# Altium integrated library Molex FFC - FPC Connectors (SMT).IntLib: 638 symbols (part 13 of 20)
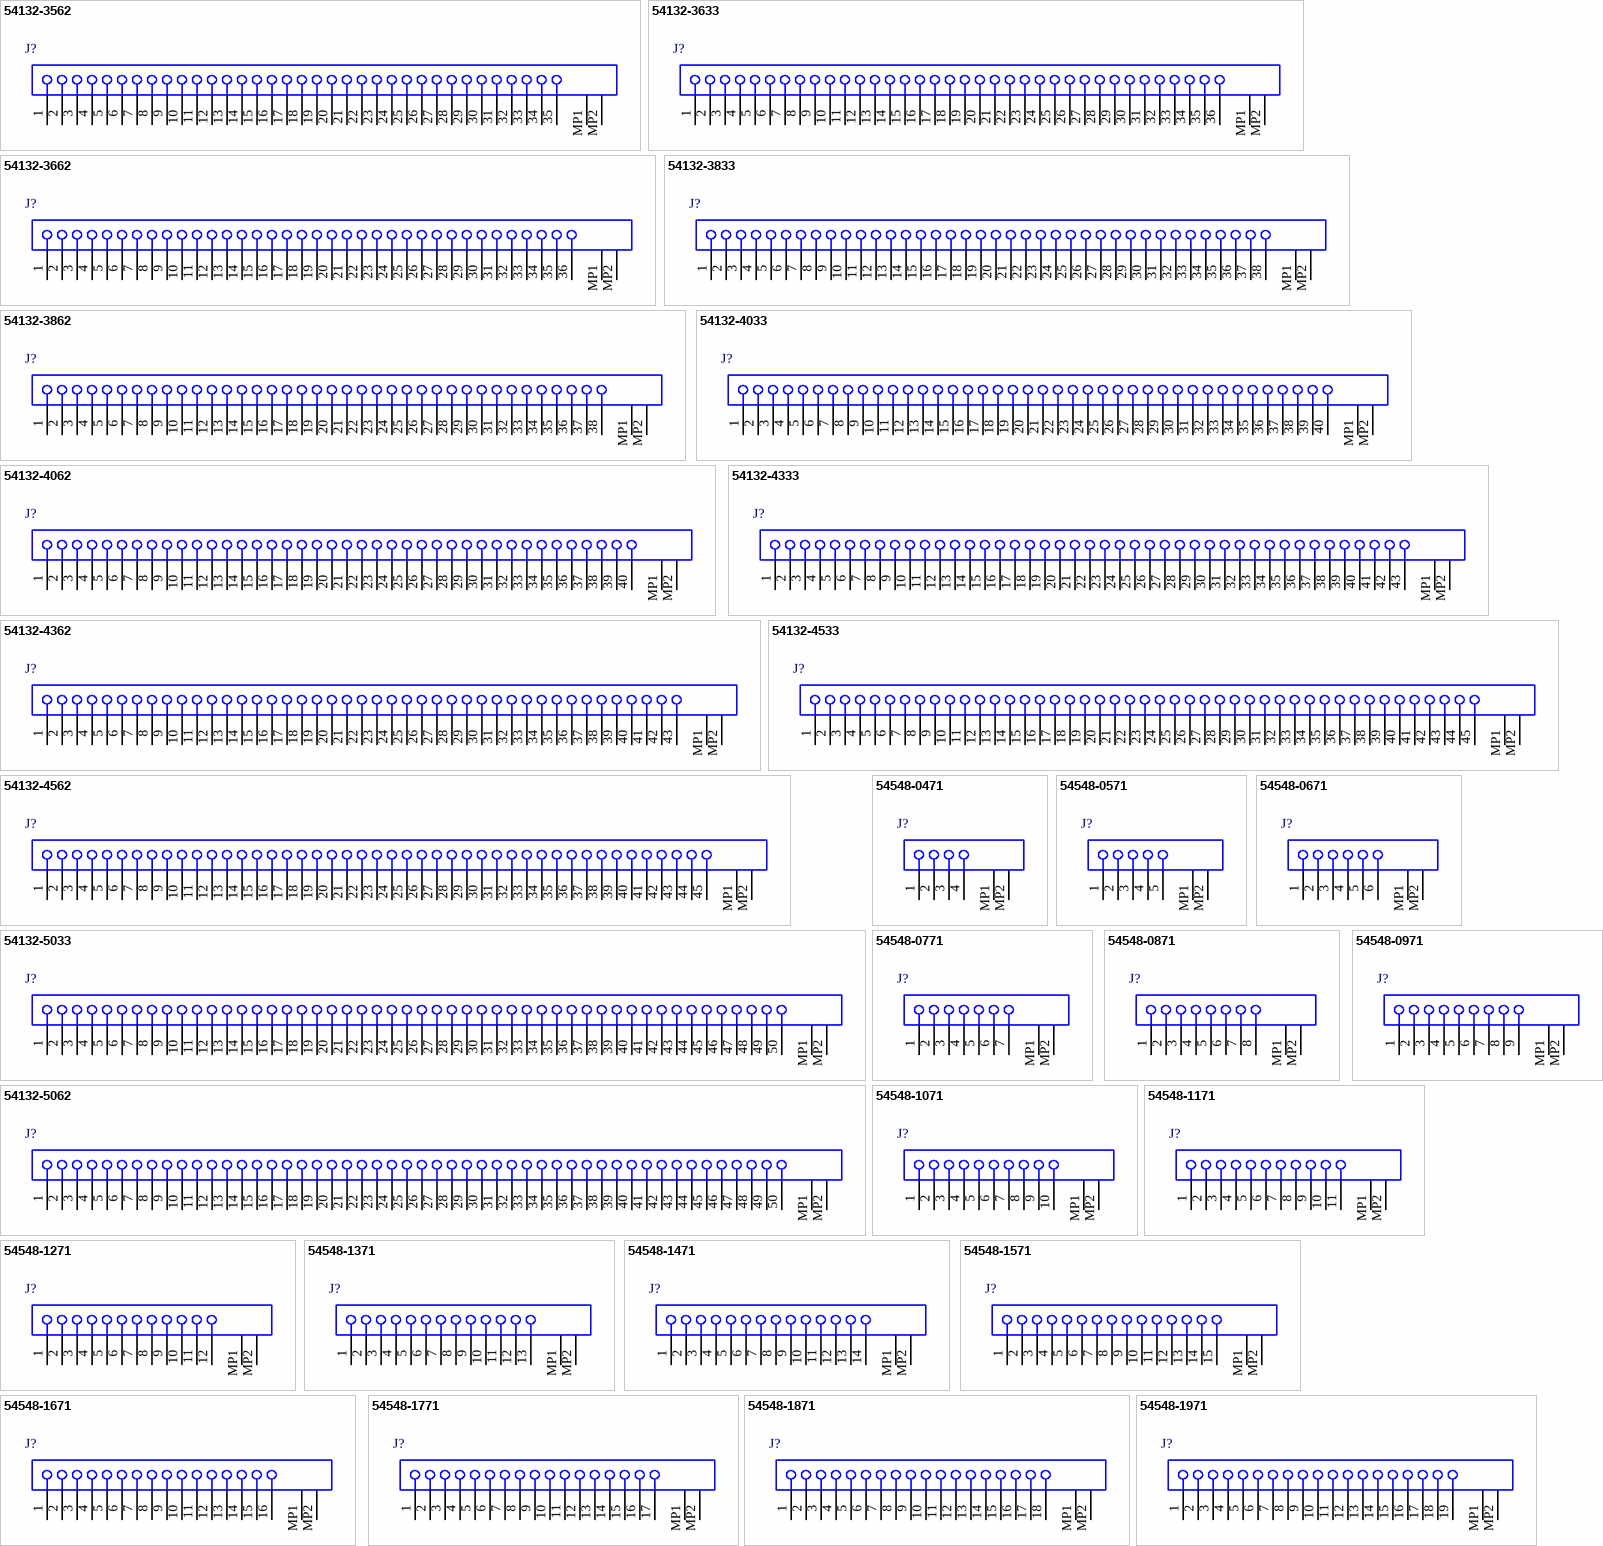
[diagram p33: symbols 54132-3562 to 54548-1971]

## 54548-0771
designator J?
0.5 mm Pitch Easy-On(TM) Type FPC Connector, 1.2 mm Mated Height, Right Angle, ZIF, SMT, Bottom Contact, 7 Circuits, -20 to 85 degC, ELV and RoHS Compliant, Tape and Reel; Manufacturer: Molex; PartNumber: 54548-0771; Circuits (Loaded): 7; Current (Max per Contact): 0.5A; Durability (mating cycles max): 20; Entry Angle: 90degrees Angle; Mated Height: 1.20mm; Material - Metal: Phosphor Bronze; Material - Plating Mating: Gold; Material - Plating Termination: Tin; PCB Locator: No; PCB Retention: Yes; Pitch - Mating Interface: 0.50mm; Voltage (Max): 50V; PackageVersion: Rev. N, 06/2008; PackageReference: 54548-0771; PackageDescription: 7-Lead FPC Connector, Pitch 0.5 mm; Contact Position: Bottom; Number of Rows: 1; Orientation: Right Angle; Packing: Tape and Reel; Polarized to PCB: Yes; RoHS: TRUE; Stackable: No; Mounting Technology: Surface Mount; ComponentLink1Description: Manufacturer URL; ComponentLink1URL: http://www.molex.com/molex/index.jsp; ComponentLink2Description: Datasheet; ComponentLink2URL: http://www.molex.com/webdocs/datasheets/pdf/en-us/0545480771_FFC_FPC_CONNECTORS.pdf; ComponentLink3Description: Package Specification; ComponentLink3URL: http://www.molex.com/pdm_docs/sd/545480771_sd.pdf
footprint MOLX-54548-0771 (FPC Connector, 7-Leads, Right Angle, Pitch 0.5 mm, Mated Height 1.2 mm, SMT)
pins: 1, 2, 3, 4, 5, 6, 7, MP1, MP2

## 54548-0871
designator J?
0.5 mm Pitch Easy-On(TM) Type FPC Connector, 1.2 mm Mated Height, Right Angle, ZIF, SMT, Bottom Contact, 8 Circuits, -20 to 85 degC, ELV and RoHS Compliant, Tape and Reel; Manufacturer: Molex; PartNumber: 54548-0871; Circuits (Loaded): 8; Current (Max per Contact): 0.5A; Durability (mating cycles max): 20; Entry Angle: 90degrees Angle; Mated Height: 1.20mm; Material - Metal: Phosphor Bronze; Material - Plating Mating: Gold; Material - Plating Termination: Tin; PCB Locator: No; PCB Retention: Yes; Pitch - Mating Interface: 0.50mm; Voltage (Max): 50V; PackageVersion: Rev. N, 06/2008; PackageReference: 54548-0871; PackageDescription: 8-Lead FPC Connector, Pitch 0.5 mm; Contact Position: Bottom; Number of Rows: 1; Orientation: Right Angle; Packing: Tape and Reel; Polarized to PCB: Yes; RoHS: TRUE; Stackable: No; Mounting Technology: Surface Mount; ComponentLink1Description: Manufacturer URL; ComponentLink1URL: http://www.molex.com/molex/index.jsp; ComponentLink2Description: Datasheet; ComponentLink2URL: http://www.molex.com/webdocs/datasheets/pdf/en-us/0545480871_FFC_FPC_CONNECTORS.pdf; ComponentLink3Description: Package Specification; ComponentLink3URL: http://www.molex.com/pdm_docs/sd/545480871_sd.pdf
footprint MOLX-54548-0871 (FPC Connector, 8-Leads, Right Angle, Pitch 0.5 mm, Mated Height 1.2 mm, SMT)
pins: 1, 2, 3, 4, 5, 6, 7, 8, MP1, MP2

## 54548-0971
designator J?
0.5 mm Pitch Easy-On(TM) Type FPC Connector, 1.2 mm Mated Height, Right Angle, ZIF, SMT, Bottom Contact, 9 Circuits, -20 to 85 degC, ELV and RoHS Compliant, Tape and Reel; Manufacturer: Molex; PartNumber: 54548-0971; Circuits (Loaded): 9; Current (Max per Contact): 0.5A; Durability (mating cycles max): 20; Entry Angle: 90degrees Angle; Mated Height: 1.20mm; Material - Metal: Phosphor Bronze; Material - Plating Mating: Gold; Material - Plating Termination: Tin; PCB Locator: No; PCB Retention: Yes; Pitch - Mating Interface: 0.50mm; Voltage (Max): 50V; PackageVersion: Rev. N, 06/2008; PackageReference: 54548-0971; PackageDescription: 9-Lead FPC Connector, Pitch 0.5 mm; Contact Position: Bottom; Number of Rows: 1; Orientation: Right Angle; Packing: Tape and Reel; Polarized to PCB: Yes; RoHS: TRUE; Stackable: No; Mounting Technology: Surface Mount; ComponentLink1Description: Manufacturer URL; ComponentLink1URL: http://www.molex.com/molex/index.jsp; ComponentLink2Description: Datasheet; ComponentLink2URL: http://www.molex.com/webdocs/datasheets/pdf/en-us/0545480971_FFC_FPC_CONNECTORS.pdf; ComponentLink3Description: Package Specification; ComponentLink3URL: http://www.molex.com/pdm_docs/sd/545480971_sd.pdf
footprint MOLX-54548-0971 (FPC Connector, 9-Leads, Right Angle, Pitch 0.5 mm, Mated Height 1.2 mm, SMT)
pins: 1, 2, 3, 4, 5, 6, 7, 8, 9, MP1, MP2

## 54548-1071
designator J?
0.5 mm Pitch Easy-On(TM) Type FPC Connector, 1.2 mm Mated Height, Right Angle, ZIF, SMT, Bottom Contact, 10 Circuits, -20 to 85 degC, ELV and RoHS Compliant, Tape and Reel; Manufacturer: Molex; PartNumber: 54548-1071; Circuits (Loaded): 10; Current (Max per Contact): 0.5A; Durability (mating cycles max): 20; Entry Angle: 90degrees Angle; Mated Height: 1.20mm; Material - Metal: Phosphor Bronze; Material - Plating Mating: Gold; Material - Plating Termination: Tin; PCB Locator: No; PCB Retention: Yes; Pitch - Mating Interface: 0.50mm; Voltage (Max): 50V; PackageVersion: Rev. N, 06/2008; PackageReference: 54548-1071; PackageDescription: 10-Lead FPC Connector, Pitch 0.5 mm; Contact Position: Bottom; Number of Rows: 1; Orientation: Right Angle; Packing: Tape and Reel; Polarized to PCB: Yes; RoHS: TRUE; Stackable: No; Mounting Technology: Surface Mount; ComponentLink1Description: Manufacturer URL; ComponentLink1URL: http://www.molex.com/molex/index.jsp; ComponentLink2Description: Datasheet; ComponentLink2URL: http://www.molex.com/webdocs/datasheets/pdf/en-us/0545481071_FFC_FPC_CONNECTORS.pdf; ComponentLink3Description: Package Specification; ComponentLink3URL: http://www.molex.com/pdm_docs/sd/545481071_sd.pdf
footprint MOLX-54548-1071 (FPC Connector, 10-Leads, Right Angle, Pitch 0.5 mm, Mated Height 1.2 mm, SMT)
pins: 1, 2, 3, 4, 5, 6, 7, 8, 9, 10, MP1, MP2

## 54548-1171
designator J?
0.5 mm Pitch Easy-On(TM) Type FPC Connector, 1.2 mm Mated Height, Right Angle, ZIF, SMT, Bottom Contact, 11 Circuits, -20 to 85 degC, ELV and RoHS Compliant, Tape and Reel; Manufacturer: Molex; PartNumber: 54548-1171; Circuits (Loaded): 11; Current (Max per Contact): 0.5A; Durability (mating cycles max): 20; Entry Angle: 90degrees Angle; Mated Height: 1.20mm; Material - Metal: Phosphor Bronze; Material - Plating Mating: Gold; Material - Plating Termination: Tin; PCB Locator: No; PCB Retention: Yes; Pitch - Mating Interface: 0.50mm; Voltage (Max): 50V; PackageVersion: Rev. N, 06/2008; PackageReference: 54548-1171; PackageDescription: 11-Lead FPC Connector, Pitch 0.5 mm; Contact Position: Bottom; Number of Rows: 1; Orientation: Right Angle; Packing: Tape and Reel; Polarized to PCB: Yes; RoHS: TRUE; Stackable: No; Mounting Technology: Surface Mount; ComponentLink1Description: Manufacturer URL; ComponentLink1URL: http://www.molex.com/molex/index.jsp; ComponentLink2Description: Datasheet; ComponentLink2URL: http://www.molex.com/webdocs/datasheets/pdf/en-us/0545481171_FFC_FPC_CONNECTORS.pdf; ComponentLink3Description: Package Specification; ComponentLink3URL: http://www.molex.com/pdm_docs/sd/545481171_sd.pdf
footprint MOLX-54548-1171 (FPC Connector, 11-Leads, Right Angle, Pitch 0.5 mm, Mated Height 1.2 mm, SMT)
pins: 1, 2, 3, 4, 5, 6, 7, 8, 9, 10, 11, MP1, MP2

## 54548-1271
designator J?
0.5 mm Pitch Easy-On(TM) Type FPC Connector, 1.2 mm Mated Height, Right Angle, ZIF, SMT, Bottom Contact, 12 Circuits, -20 to 85 degC, ELV and RoHS Compliant, Tape and Reel; Manufacturer: Molex; PartNumber: 54548-1271; Circuits (Loaded): 12; Current (Max per Contact): 0.5A; Durability (mating cycles max): 20; Entry Angle: 90degrees Angle; Mated Height: 1.20mm; Material - Metal: Phosphor Bronze; Material - Plating Mating: Gold; Material - Plating Termination: Tin; PCB Locator: No; PCB Retention: Yes; Pitch - Mating Interface: 0.50mm; Voltage (Max): 50V; PackageVersion: Rev. N, 06/2008; PackageReference: 54548-1271; PackageDescription: 12-Lead FPC Connector, Pitch 0.5 mm; Contact Position: Bottom; Number of Rows: 1; Orientation: Right Angle; Packing: Tape and Reel; Polarized to PCB: Yes; RoHS: TRUE; Stackable: No; Mounting Technology: Surface Mount; ComponentLink1Description: Manufacturer URL; ComponentLink1URL: http://www.molex.com/molex/index.jsp; ComponentLink2Description: Datasheet; ComponentLink2URL: http://www.molex.com/webdocs/datasheets/pdf/en-us/0545481271_FFC_FPC_CONNECTORS.pdf; ComponentLink3Description: Package Specification; ComponentLink3URL: http://www.molex.com/pdm_docs/sd/545481271_sd.pdf
footprint MOLX-54548-1271 (FPC Connector, 12-Leads, Right Angle, Pitch 0.5 mm, Mated Height 1.2 mm, SMT)
pins: 1, 2, 3, 4, 5, 6, 7, 8, 9, 10, 11, 12, MP1, MP2

## 54548-1371
designator J?
0.5 mm Pitch Easy-On(TM) Type FPC Connector, 1.2 mm Mated Height, Right Angle, ZIF, SMT, Bottom Contact, 13 Circuits, -20 to 85 degC, ELV and RoHS Compliant, Tape and Reel; Manufacturer: Molex; PartNumber: 54548-1371; Circuits (Loaded): 13; Current (Max per Contact): 0.5A; Durability (mating cycles max): 20; Entry Angle: 90degrees Angle; Mated Height: 1.20mm; Material - Metal: Phosphor Bronze; Material - Plating Mating: Gold; Material - Plating Termination: Tin; PCB Locator: No; PCB Retention: Yes; Pitch - Mating Interface: 0.50mm; Voltage (Max): 50V; PackageVersion: Rev. N, 06/2008; PackageReference: 54548-1371; PackageDescription: 13-Lead FPC Connector, Pitch 0.5 mm; Contact Position: Bottom; Number of Rows: 1; Orientation: Right Angle; Packing: Tape and Reel; Polarized to PCB: Yes; RoHS: TRUE; Stackable: No; Mounting Technology: Surface Mount; ComponentLink1Description: Manufacturer URL; ComponentLink1URL: http://www.molex.com/molex/index.jsp; ComponentLink2Description: Datasheet; ComponentLink2URL: http://www.molex.com/webdocs/datasheets/pdf/en-us/0545481371_FFC_FPC_CONNECTORS.pdf; ComponentLink3Description: Package Specification; ComponentLink3URL: http://www.molex.com/pdm_docs/sd/545481371_sd.pdf
footprint MOLX-54548-1371 (FPC Connector, 13-Leads, Right Angle, Pitch 0.5 mm, Mated Height 1.2 mm, SMT)
pins: 1, 2, 3, 4, 5, 6, 7, 8, 9, 10, 11, 12, 13, MP1, MP2

## 54548-1471
designator J?
0.5 mm Pitch Easy-On(TM) Type FPC Connector, 1.2 mm Mated Height, Right Angle, ZIF, SMT, Bottom Contact, 14 Circuits, -20 to 85 degC, ELV and RoHS Compliant, Tape and Reel; Manufacturer: Molex; PartNumber: 54548-1471; Circuits (Loaded): 14; Current (Max per Contact): 0.5A; Durability (mating cycles max): 20; Entry Angle: 90degrees Angle; Mated Height: 1.20mm; Material - Metal: Phosphor Bronze; Material - Plating Mating: Gold; Material - Plating Termination: Tin; PCB Locator: No; PCB Retention: Yes; Pitch - Mating Interface: 0.50mm; Voltage (Max): 50V; PackageVersion: Rev. N, 06/2008; PackageReference: 54548-1471; PackageDescription: 14-Lead FPC Connector, Pitch 0.5 mm; Contact Position: Bottom; Number of Rows: 1; Orientation: Right Angle; Packing: Tape and Reel; Polarized to PCB: Yes; RoHS: TRUE; Stackable: No; Mounting Technology: Surface Mount; ComponentLink1Description: Manufacturer URL; ComponentLink1URL: http://www.molex.com/molex/index.jsp; ComponentLink2Description: Datasheet; ComponentLink2URL: http://www.molex.com/webdocs/datasheets/pdf/en-us/0545481471_FFC_FPC_CONNECTORS.pdf; ComponentLink3Description: Package Specification; ComponentLink3URL: http://www.molex.com/pdm_docs/sd/545481471_sd.pdf
footprint MOLX-54548-1471 (FPC Connector, 14-Leads, Right Angle, Pitch 0.5 mm, Mated Height 1.2 mm, SMT)
pins: 1, 2, 3, 4, 5, 6, 7, 8, 9, 10, 11, 12, 13, 14, MP1, MP2

## 54548-1571
designator J?
0.5 mm Pitch Easy-On(TM) Type FPC Connector, 1.2 mm Mated Height, Right Angle, ZIF, SMT, Bottom Contact, 15 Circuits, -20 to 85 degC, ELV and RoHS Compliant, Tape and Reel; Manufacturer: Molex; PartNumber: 54548-1571; Circuits (Loaded): 15; Current (Max per Contact): 0.5A; Durability (mating cycles max): 20; Entry Angle: 90degrees Angle; Mated Height: 1.20mm; Material - Metal: Phosphor Bronze; Material - Plating Mating: Gold; Material - Plating Termination: Tin; PCB Locator: No; PCB Retention: Yes; Pitch - Mating Interface: 0.50mm; Voltage (Max): 50V; PackageVersion: Rev. N, 06/2008; PackageReference: 54548-1571; PackageDescription: 15-Lead FPC Connector, Pitch 0.5 mm; Contact Position: Bottom; Number of Rows: 1; Orientation: Right Angle; Packing: Tape and Reel; Polarized to PCB: Yes; RoHS: TRUE; Stackable: No; Mounting Technology: Surface Mount; ComponentLink1Description: Manufacturer URL; ComponentLink1URL: http://www.molex.com/molex/index.jsp; ComponentLink2Description: Datasheet; ComponentLink2URL: http://www.molex.com/webdocs/datasheets/pdf/en-us/0545481571_FFC_FPC_CONNECTORS.pdf; ComponentLink3Description: Package Specification; ComponentLink3URL: http://www.molex.com/pdm_docs/sd/545481571_sd.pdf
footprint MOLX-54548-1571 (FPC Connector, 15-Leads, Right Angle, Pitch 0.5 mm, Mated Height 1.2 mm, SMT)
pins: 1, 2, 3, 4, 5, 6, 7, 8, 9, 10, 11, 12, 13, 14, 15, MP1, MP2

## 54548-1671
designator J?
0.5 mm Pitch Easy-On(TM) Type FPC Connector, 1.2 mm Mated Height, Right Angle, ZIF, SMT, Bottom Contact, 16 Circuits, -20 to 85 degC, ELV and RoHS Compliant, Tape and Reel; Manufacturer: Molex; PartNumber: 54548-1671; Circuits (Loaded): 16; Current (Max per Contact): 0.5A; Durability (mating cycles max): 20; Entry Angle: 90degrees Angle; Mated Height: 1.20mm; Material - Metal: Phosphor Bronze; Material - Plating Mating: Gold; Material - Plating Termination: Tin; PCB Locator: No; PCB Retention: Yes; Pitch - Mating Interface: 0.50mm; Voltage (Max): 50V; PackageVersion: Rev. N, 06/2008; PackageReference: 54548-1671; PackageDescription: 16-Lead FPC Connector, Pitch 0.5 mm; Contact Position: Bottom; Number of Rows: 1; Orientation: Right Angle; Packing: Tape and Reel; Polarized to PCB: Yes; RoHS: TRUE; Stackable: No; Mounting Technology: Surface Mount; ComponentLink1Description: Manufacturer URL; ComponentLink1URL: http://www.molex.com/molex/index.jsp; ComponentLink2Description: Datasheet; ComponentLink2URL: http://www.molex.com/webdocs/datasheets/pdf/en-us/0545481671_FFC_FPC_CONNECTORS.pdf; ComponentLink3Description: Package Specification; ComponentLink3URL: http://www.molex.com/pdm_docs/sd/545481671_sd.pdf
footprint MOLX-54548-1671 (FPC Connector, 16-Leads, Right Angle, Pitch 0.5 mm, Mated Height 1.2 mm, SMT)
pins: 1, 2, 3, 4, 5, 6, 7, 8, 9, 10, 11, 12, 13, 14, 15, 16, MP1, MP2

## 54548-1771
designator J?
0.5 mm Pitch Easy-On(TM) Type FPC Connector, 1.2 mm Mated Height, Right Angle, ZIF, SMT, Bottom Contact, 17 Circuits, -20 to 85 degC, ELV and RoHS Compliant, Tape and Reel; Manufacturer: Molex; PartNumber: 54548-1771; Circuits (Loaded): 17; Current (Max per Contact): 0.5A; Durability (mating cycles max): 20; Entry Angle: 90degrees Angle; Mated Height: 1.20mm; Material - Metal: Phosphor Bronze; Material - Plating Mating: Gold; Material - Plating Termination: Tin; PCB Locator: No; PCB Retention: Yes; Pitch - Mating Interface: 0.50mm; Voltage (Max): 50V; PackageVersion: Rev. N, 06/2008; PackageReference: 54548-1771; PackageDescription: 17-Lead FPC Connector, Pitch 0.5 mm; Contact Position: Bottom; Number of Rows: 1; Orientation: Right Angle; Packing: Tape and Reel; Polarized to PCB: Yes; RoHS: TRUE; Stackable: No; Mounting Technology: Surface Mount; ComponentLink1Description: Manufacturer URL; ComponentLink1URL: http://www.molex.com/molex/index.jsp; ComponentLink2Description: Datasheet; ComponentLink2URL: http://www.molex.com/webdocs/datasheets/pdf/en-us/0545481771_FFC_FPC_CONNECTORS.pdf; ComponentLink3Description: Package Specification; ComponentLink3URL: http://www.molex.com/pdm_docs/sd/545481771_sd.pdf
footprint MOLX-54548-1771 (FPC Connector, 17-Leads, Right Angle, Pitch 0.5 mm, Mated Height 1.2 mm, SMT)
pins: 1, 2, 3, 4, 5, 6, 7, 8, 9, 10, 11, 12, 13, 14, 15, 16, 17, MP1, MP2

## 54548-1871
designator J?
0.5 mm Pitch Easy-On(TM) Type FPC Connector, 1.2 mm Mated Height, Right Angle, ZIF, SMT, Bottom Contact, 18 Circuits, -20 to 85 degC, ELV and RoHS Compliant, Tape and Reel; Manufacturer: Molex; PartNumber: 54548-1871; Circuits (Loaded): 18; Current (Max per Contact): 0.5A; Durability (mating cycles max): 20; Entry Angle: 90degrees Angle; Mated Height: 1.20mm; Material - Metal: Phosphor Bronze; Material - Plating Mating: Gold; Material - Plating Termination: Tin; PCB Locator: No; PCB Retention: Yes; Pitch - Mating Interface: 0.50mm; Voltage (Max): 50V; PackageVersion: Rev. N, 06/2008; PackageReference: 54548-1871; PackageDescription: 18-Lead FPC Connector, Pitch 0.5 mm; Contact Position: Bottom; Number of Rows: 1; Orientation: Right Angle; Packing: Tape and Reel; Polarized to PCB: Yes; RoHS: TRUE; Stackable: No; Mounting Technology: Surface Mount; ComponentLink1Description: Manufacturer URL; ComponentLink1URL: http://www.molex.com/molex/index.jsp; ComponentLink2Description: Datasheet; ComponentLink2URL: http://www.molex.com/webdocs/datasheets/pdf/en-us/0545481871_FFC_FPC_CONNECTORS.pdf; ComponentLink3Description: Package Specification; ComponentLink3URL: http://www.molex.com/pdm_docs/sd/545481871_sd.pdf
footprint MOLX-54548-1871 (FPC Connector, 18-Leads, Right Angle, Pitch 0.5 mm, Mated Height 1.2 mm, SMT)
pins: 1, 2, 3, 4, 5, 6, 7, 8, 9, 10, 11, 12, 13, 14, 15, 16, 17, 18, MP1, MP2

## 54548-1971
designator J?
0.5 mm Pitch Easy-On(TM) Type FPC Connector, 1.2 mm Mated Height, Right Angle, ZIF, SMT, Bottom Contact, 19 Circuits, -20 to 85 degC, ELV and RoHS Compliant, Tape and Reel; Manufacturer: Molex; PartNumber: 54548-1971; Circuits (Loaded): 19; Current (Max per Contact): 0.5A; Durability (mating cycles max): 20; Entry Angle: 90degrees Angle; Mated Height: 1.20mm; Material - Metal: Phosphor Bronze; Material - Plating Mating: Gold; Material - Plating Termination: Tin; PCB Locator: No; PCB Retention: Yes; Pitch - Mating Interface: 0.50mm; Voltage (Max): 50V; PackageVersion: Rev. N, 06/2008; PackageReference: 54548-1971; PackageDescription: 19-Lead FPC Connector, Pitch 0.5 mm; Contact Position: Bottom; Number of Rows: 1; Orientation: Right Angle; Packing: Tape and Reel; Polarized to PCB: Yes; RoHS: TRUE; Stackable: No; Mounting Technology: Surface Mount; ComponentLink1Description: Manufacturer URL; ComponentLink1URL: http://www.molex.com/molex/index.jsp; ComponentLink2Description: Datasheet; ComponentLink2URL: http://www.molex.com/webdocs/datasheets/pdf/en-us/0545481971_FFC_FPC_CONNECTORS.pdf; ComponentLink3Description: Package Specification; ComponentLink3URL: http://www.molex.com/pdm_docs/sd/545481971_sd.pdf
footprint MOLX-54548-1971 (FPC Connector, 19-Leads, Right Angle, Pitch 0.5 mm, Mated Height 1.2 mm, SMT)
pins: 1, 2, 3, 4, 5, 6, 7, 8, 9, 10, 11, 12, 13, 14, 15, 16, 17, 18, 19, MP1, MP2

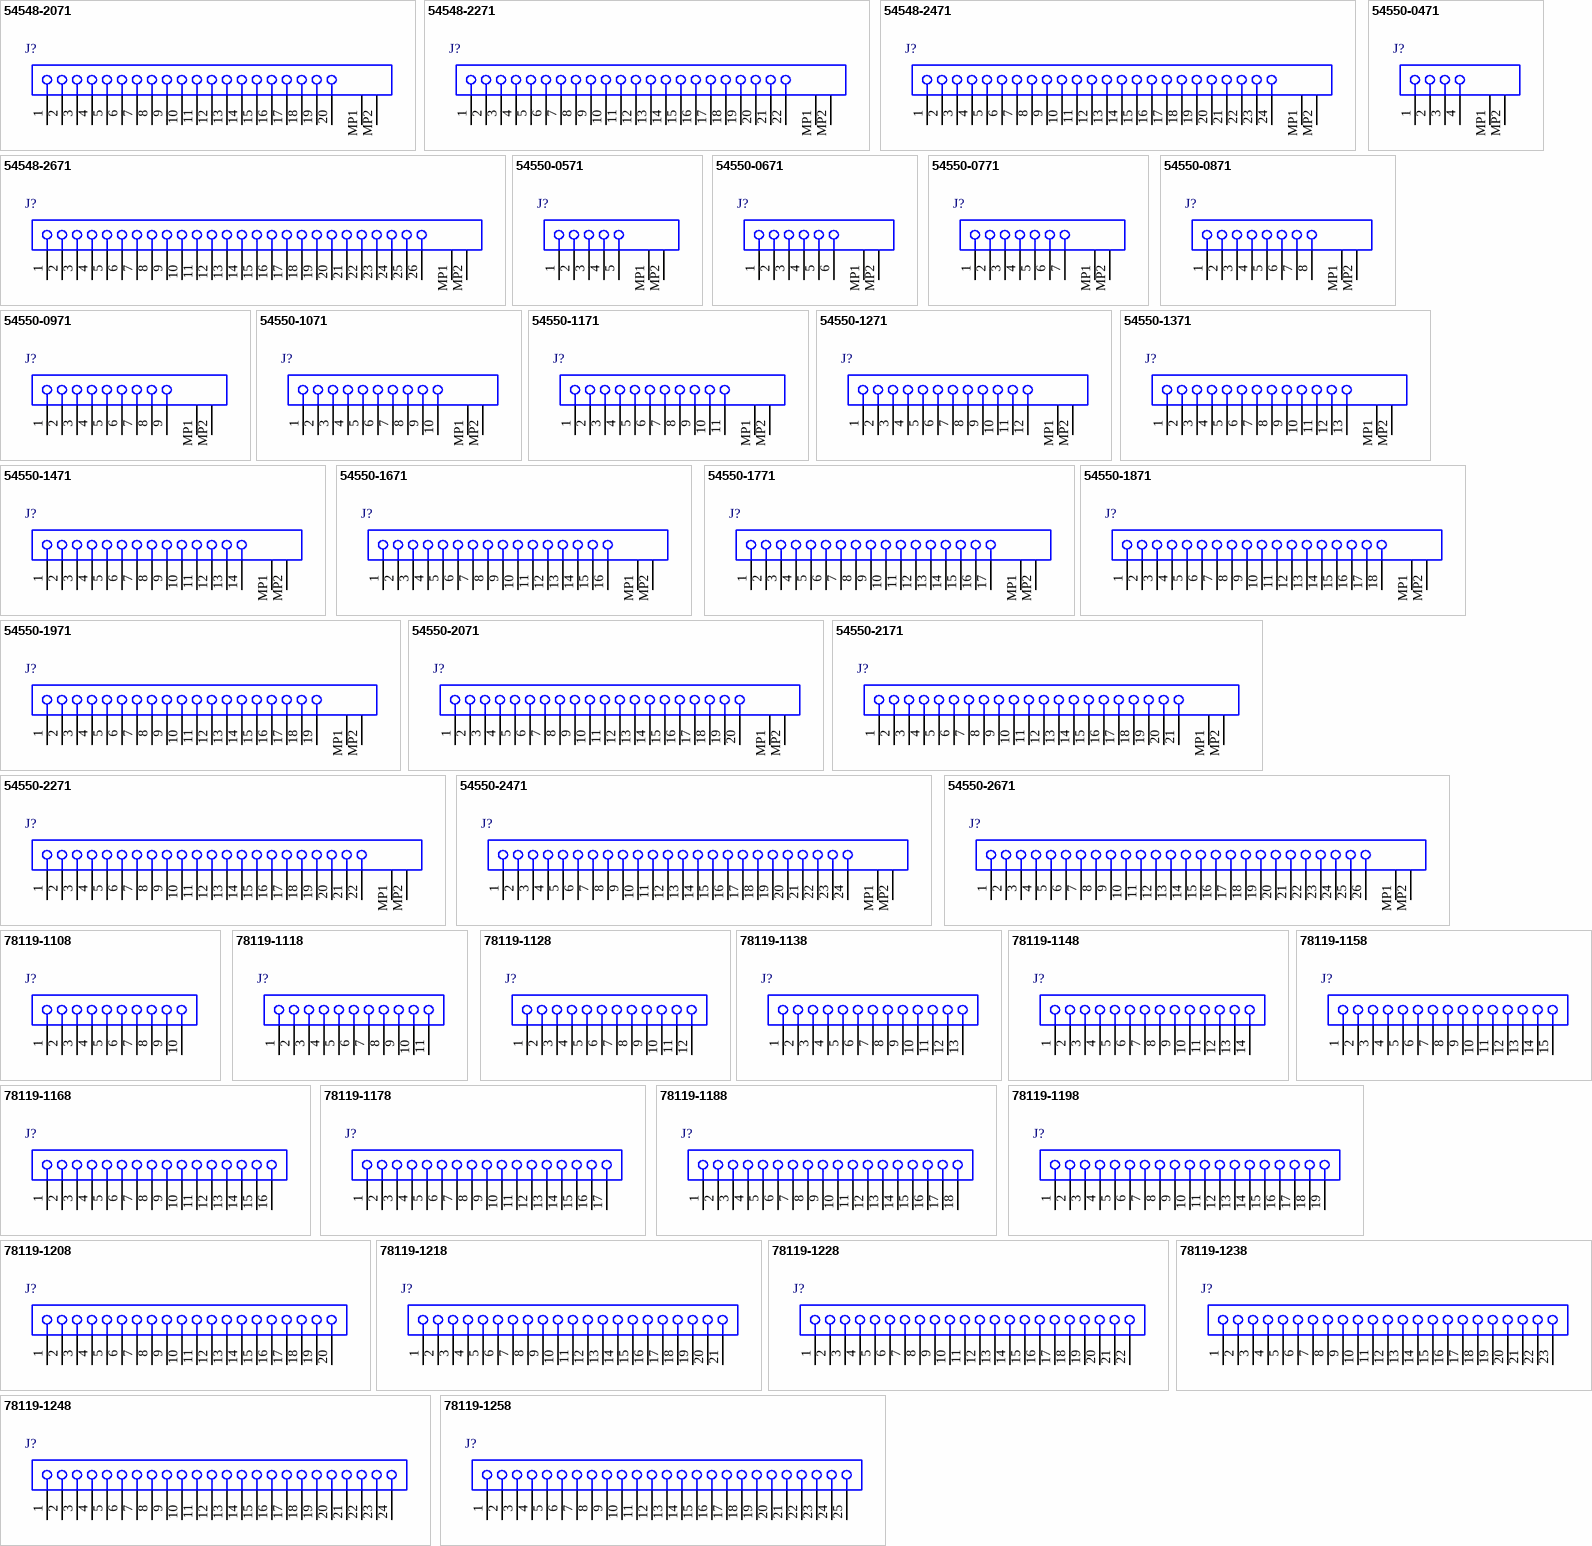
[diagram p12: symbols 54548-2071 to 78119-1258]

## 54548-2071
designator J?
0.5 mm Pitch Easy-On(TM) Type FPC Connector, 1.2 mm Mated Height, Right Angle, ZIF, SMT, Bottom Contact, 20 Circuits, -20 to 85 degC, ELV and RoHS Compliant, Tape and Reel; Manufacturer: Molex; PartNumber: 54548-2071; Circuits (Loaded): 20; Current (Max per Contact): 0.5A; Entry Angle: 90degrees Angle; Mated Height: 1.20mm; Material - Metal: Phosphor Bronze; Material - Plating Mating: Gold; Material - Plating Termination: Tin; PCB Locator: No; PCB Retention: Yes; Pitch - Mating Interface: 0.50mm; Voltage (Max): 50V; PackageVersion: Rev. N, 06/2008; PackageReference: 54548-2071; PackageDescription: 20-Lead FPC Connector, Pitch 0.5 mm; Contact Position: Bottom; Durability (mating cycles max): 20; Number of Rows: 1; Orientation: Right Angle; Packing: Tape and Reel; Polarized to PCB: Yes; RoHS: TRUE; Stackable: No; Mounting Technology: Surface Mount; ComponentLink1Description: Manufacturer URL; ComponentLink1URL: http://www.molex.com/molex/index.jsp; ComponentLink2Description: Datasheet; ComponentLink2URL: http://www.molex.com/webdocs/datasheets/pdf/en-us/0545482071_FFC_FPC_CONNECTORS.pdf; ComponentLink3Description: Package Specification; ComponentLink3URL: http://www.molex.com/pdm_docs/sd/545482071_sd.pdf
footprint MOLX-54548-2071 (FPC Connector, 20-Leads, Right Angle, Pitch 0.5 mm, Mated Height 1.2 mm, SMT)
pins: 1, 2, 3, 4, 5, 6, 7, 8, 9, 10, 11, 12, 13, 14, 15, 16, 17, 18, 19, 20, MP1, MP2

## 54548-2271
designator J?
0.5 mm Pitch Easy-On(TM) Type FPC Connector, 1.2 mm Mated Height, Right Angle, ZIF, SMT, Bottom Contact, 22 Circuits, -20 to 85 degC, ELV and RoHS Compliant, Tape and Reel; Manufacturer: Molex; PartNumber: 54548-2271; Circuits (Loaded): 22; Current (Max per Contact): 0.5A; Durability (mating cycles max): 20; Entry Angle: 90degrees Angle; Mated Height: 1.20mm; Material - Metal: Phosphor Bronze; Material - Plating Mating: Gold; Material - Plating Termination: Tin; PCB Locator: No; PCB Retention: Yes; Pitch - Mating Interface: 0.50mm; Voltage (Max): 50V; PackageVersion: Rev. N, 06/2008; PackageReference: 54548-2271; PackageDescription: 22-Lead FPC Connector, Pitch 0.5 mm; Contact Position: Bottom; Number of Rows: 1; Orientation: Right Angle; Packing: Tape and Reel; Polarized to PCB: Yes; RoHS: TRUE; Stackable: No; Mounting Technology: Surface Mount; ComponentLink1Description: Manufacturer URL; ComponentLink1URL: http://www.molex.com/molex/index.jsp; ComponentLink2Description: Datasheet; ComponentLink2URL: http://www.molex.com/webdocs/datasheets/pdf/en-us/0545482271_FFC_FPC_CONNECTORS.pdf; ComponentLink3Description: Package Specification; ComponentLink3URL: http://www.molex.com/pdm_docs/sd/545482171_sd.pdf
footprint MOLX-54548-2271 (FPC Connector, 22-Leads, Right Angle, Pitch 0.5 mm, Mated Height 1.2 mm, SMT)
pins: 1, 2, 3, 4, 5, 6, 7, 8, 9, 10, 11, 12, 13, 14, 15, 16, 17, 18, 19, 20, 21, 22, MP1, MP2

## 54548-2471
designator J?
0.5 mm Pitch Easy-On(TM) Type FPC Connector, 1.2 mm Mated Height, Right Angle, ZIF, SMT, Bottom Contact, 24 Circuits, -20 to 85 degC, ELV and RoHS Compliant, Tape and Reel; Manufacturer: Molex; PartNumber: 54548-2471; Circuits (Loaded): 24; Current (Max per Contact): 0.5A; Durability (mating cycles max): 20; Entry Angle: 90degrees Angle; Mated Height: 1.20mm; Material - Metal: Phosphor Bronze; Material - Plating Mating: Gold; Material - Plating Termination: Tin; PCB Locator: No; PCB Retention: Yes; Pitch - Mating Interface: 0.50mm; Voltage (Max): 50V; PackageVersion: Rev. N, 06/2008; PackageReference: 54548-2471; PackageDescription: 24-Lead FPC Connector, Pitch 0.5 mm; Contact Position: Bottom; Number of Rows: 1; Orientation: Right Angle; Packing: Tape and Reel; Polarized to PCB: Yes; RoHS: TRUE; Stackable: No; Mounting Technology: Surface Mount; ComponentLink1Description: Manufacturer URL; ComponentLink1URL: http://www.molex.com/molex/index.jsp; ComponentLink2Description: Datasheet; ComponentLink2URL: http://www.molex.com/webdocs/datasheets/pdf/en-us/0545482471_FFC_FPC_CONNECTORS.pdf; ComponentLink3Description: Package Specification; ComponentLink3URL: http://www.molex.com/pdm_docs/sd/545482471_sd.pdf
footprint MOLX-54548-2471 (FPC Connector, 24-Leads, Right Angle, Pitch 0.5 mm, Mated Height 1.2 mm, SMT)
pins: 1, 2, 3, 4, 5, 6, 7, 8, 9, 10, 11, 12, 13, 14, 15, 16, 17, 18, 19, 20, 21, 22, 23, 24, MP1, MP2

## 54548-2671
designator J?
0.5 mm Pitch Easy-On(TM) Type FPC Connector, 1.2 mm Mated Height, Right Angle, ZIF, SMT, Bottom Contact, 26 Circuits, -20 to 85 degC, ELV and RoHS Compliant, Tape and Reel; Manufacturer: Molex; PartNumber: 54548-2671; Circuits (Loaded): 26; Current (Max per Contact): 0.5A; Durability (mating cycles max): 20; Entry Angle: 90degrees Angle; Mated Height: 1.20mm; Material - Metal: Phosphor Bronze; Material - Plating Mating: Gold; Material - Plating Termination: Tin; PCB Locator: No; PCB Retention: Yes; Pitch - Mating Interface: 0.50mm; Voltage (Max): 50V; PackageVersion: Rev. N, 06/2008; PackageReference: 54548-2671; PackageDescription: 26-Lead FPC Connector, Pitch 0.5 mm; Contact Position: Bottom; Number of Rows: 1; Orientation: Right Angle; Packing: Tape and Reel; Polarized to PCB: Yes; RoHS: TRUE; Stackable: No; Mounting Technology: Surface Mount; ComponentLink1Description: Manufacturer URL; ComponentLink1URL: http://www.molex.com/molex/index.jsp; ComponentLink2Description: Datasheet; ComponentLink2URL: http://www.molex.com/webdocs/datasheets/pdf/en-us/0545482671_FFC_FPC_CONNECTORS.pdf; ComponentLink3Description: Package Specification; ComponentLink3URL: http://www.molex.com/pdm_docs/sd/545482671_sd.pdf
footprint MOLX-54548-2671 (FPC Connector, 26-Leads, Right Angle, Pitch 0.5 mm, Mated Height 1.2 mm, SMT)
pins: 1, 2, 3, 4, 5, 6, 7, 8, 9, 10, 11, 12, 13, 14, 15, 16, 17, 18, 19, 20, 21, 22, 23, 24, 25, 26, MP1, MP2

## 54550-0471
designator J?
0.5 mm Pitch Easy-On(TM) Type FPC Connector, 1.2 mm Mated Height, Right Angle, ZIF, SMT, Top Contact, 4 Circuits, -20 to 85 degC, ELV and RoHS Compliant, Tape and Reel; Manufacturer: Molex; PartNumber: 54550-0471; Circuits (Loaded): 4; Current (Max per Contact): 0.5A; Durability (mating cycles max): 20; Entry Angle: 90degrees Angle; Mated Height: 1.20mm; Material - Metal: Phosphor Bronze; Material - Plating Mating: Gold; Material - Plating Termination: Tin; PCB Locator: No; PCB Retention: Yes; Pitch - Mating Interface: 0.50mm; Voltage (Max): 50V; PackageVersion: Rev. M, 12/2009; PackageReference: 54550-0471; PackageDescription: 4-Lead FPC Connector, Pitch 0.5 mm; Contact Position: Top; Number of Rows: 1; Orientation: Right Angle; Packing: Tape and Reel; Polarized to PCB: Yes; RoHS: TRUE; Stackable: No; Mounting Technology: Surface Mount; ComponentLink1Description: Manufacturer URL; ComponentLink1URL: http://www.molex.com/molex/index.jsp; ComponentLink2Description: Datasheet; ComponentLink2URL: http://www.molex.com/webdocs/datasheets/pdf/en-us/0545500471_FFC_FPC_CONNECTORS.pdf; ComponentLink3Description: Package Specification; ComponentLink3URL: http://www.molex.com/pdm_docs/sd/545500471_sd.pdf
footprint MOLX-54550-0471 (FPC Connector, 4-Leads, Right Angle, Pitch 0.5 mm, Mated Height 1.2 mm, SMT)
pins: 1, 2, 3, 4, MP1, MP2

## 54550-0571
designator J?
0.5 mm Pitch Easy-On(TM) Type FPC Connector, 1.2 mm Mated Height, Right Angle, ZIF, SMT, Top Contact, 5 Circuits, -20 to 85 degC, ELV and RoHS Compliant, Tape and Reel; Manufacturer: Molex; PartNumber: 54550-0571; Circuits (Loaded): 5; Current (Max per Contact): 0.5A; Durability (mating cycles max): 20; Entry Angle: 90degrees Angle; Mated Height: 1.20mm; Material - Metal: Phosphor Bronze; Material - Plating Mating: Gold; Material - Plating Termination: Tin; PCB Locator: No; PCB Retention: Yes; Pitch - Mating Interface: 0.50mm; Voltage (Max): 50V; PackageVersion: Rev. M, 12/2009; PackageReference: 54550-0571; PackageDescription: 5-Lead FPC Connector, Pitch 0.5 mm; Contact Position: Top; Number of Rows: 1; Orientation: Right Angle; Packing: Tape and Reel; Polarized to PCB: Yes; RoHS: TRUE; Stackable: No; Mounting Technology: Surface Mount; ComponentLink1Description: Manufacturer URL; ComponentLink1URL: http://www.molex.com/molex/index.jsp; ComponentLink2Description: Datasheet; ComponentLink2URL: http://www.molex.com/webdocs/datasheets/pdf/en-us/0545500571_FFC_FPC_CONNECTORS.pdf; ComponentLink3Description: Package Specification; ComponentLink3URL: http://www.molex.com/pdm_docs/sd/545500571_sd.pdf
footprint MOLX-54550-0571 (FPC Connector, 5-Leads, Right Angle, Pitch 0.5 mm, Mated Height 1.2 mm, SMT)
pins: 1, 2, 3, 4, 5, MP1, MP2

## 54550-0671
designator J?
0.5 mm Pitch Easy-On(TM) Type FPC Connector, 1.2 mm Mated Height, Right Angle, ZIF, SMT, Top Contact, 6 Circuits, -20 to 85 degC, ELV and RoHS Compliant, Tape and Reel; Manufacturer: Molex; PartNumber: 54550-0671; Circuits (Loaded): 6; Current (Max per Contact): 0.5A; Durability (mating cycles max): 20; Entry Angle: 90degrees Angle; Mated Height: 1.20mm; Material - Metal: Phosphor Bronze; Material - Plating Mating: Gold; Material - Plating Termination: Tin; PCB Locator: No; PCB Retention: Yes; Pitch - Mating Interface: 0.50mm; Voltage (Max): 50V; PackageVersion: Rev. M, 12/2009; PackageReference: 54550-0671; PackageDescription: 6-Lead FPC Connector, Pitch 0.5 mm; Contact Position: Top; Number of Rows: 1; Orientation: Right Angle; Packing: Tape and Reel; Polarized to PCB: Yes; RoHS: TRUE; Stackable: No; Mounting Technology: Surface Mount; ComponentLink1Description: Manufacturer URL; ComponentLink1URL: http://www.molex.com/molex/index.jsp; ComponentLink2Description: Datasheet; ComponentLink2URL: http://www.molex.com/webdocs/datasheets/pdf/en-us/0545500671_FFC_FPC_CONNECTORS.pdf; ComponentLink3Description: Package Specification; ComponentLink3URL: http://www.molex.com/pdm_docs/sd/545500671_sd.pdf
footprint MOLX-54550-0671 (FPC Connector, 6-Leads, Right Angle, Pitch 0.5 mm, Mated Height 1.2 mm, SMT)
pins: 1, 2, 3, 4, 5, 6, MP1, MP2

## 54550-0771
designator J?
0.5 mm Pitch Easy-On(TM) Type FPC Connector, 1.2 mm Mated Height, Right Angle, ZIF, SMT, Top Contact, 7 Circuits, -20 to 85 degC, ELV and RoHS Compliant, Tape and Reel; Manufacturer: Molex; PartNumber: 54550-0771; Circuits (Loaded): 7; Current (Max per Contact): 0.5A; Durability (mating cycles max): 20; Entry Angle: 90degrees Angle; Mated Height: 1.20mm; Material - Metal: Phosphor Bronze; Material - Plating Mating: Gold; Material - Plating Termination: Tin; PCB Locator: No; PCB Retention: Yes; Pitch - Mating Interface: 0.50mm; Voltage (Max): 50V; PackageVersion: Rev. M, 12/2009; PackageReference: 54550-0771; PackageDescription: 7-Lead FPC Connector, Pitch 0.5 mm; Contact Position: Top; Number of Rows: 1; Orientation: Right Angle; Packing: Tape and Reel; Polarized to PCB: Yes; RoHS: TRUE; Stackable: No; Mounting Technology: Surface Mount; ComponentLink1Description: Manufacturer URL; ComponentLink1URL: http://www.molex.com/molex/index.jsp; ComponentLink2Description: Datasheet; ComponentLink2URL: http://www.molex.com/webdocs/datasheets/pdf/en-us/0545500771_FFC_FPC_CONNECTORS.pdf; ComponentLink3Description: Package Specification; ComponentLink3URL: http://www.molex.com/pdm_docs/sd/545500771_sd.pdf
footprint MOLX-54550-0771 (FPC Connector, 7-Leads, Right Angle, Pitch 0.5 mm, Mated Height 1.2 mm, SMT)
pins: 1, 2, 3, 4, 5, 6, 7, MP1, MP2

## 54550-0871
designator J?
0.5 mm Pitch Easy-On(TM) Type FPC Connector, 1.2 mm Mated Height, Right Angle, ZIF, SMT, Top Contact, 8 Circuits, -20 to 85 degC, ELV and RoHS Compliant, Tape and Reel; Manufacturer: Molex; PartNumber: 54550-0871; Circuits (Loaded): 8; Current (Max per Contact): 0.5A; Durability (mating cycles max): 20; Entry Angle: 90degrees Angle; Mated Height: 1.20mm; Material - Metal: Phosphor Bronze; Material - Plating Mating: Gold; Material - Plating Termination: Tin; PCB Locator: No; PCB Retention: Yes; Pitch - Mating Interface: 0.50mm; Voltage (Max): 50V; PackageVersion: Rev. M, 12/2009; PackageReference: 54550-0871; PackageDescription: 8-Lead FPC Connector, Pitch 0.5 mm; Contact Position: Top; Number of Rows: 1; Orientation: Right Angle; Packing: Tape and Reel; Polarized to PCB: Yes; RoHS: TRUE; Stackable: No; Mounting Technology: Surface Mount; ComponentLink1Description: Manufacturer URL; ComponentLink1URL: http://www.molex.com/molex/index.jsp; ComponentLink2Description: Datasheet; ComponentLink2URL: http://www.molex.com/webdocs/datasheets/pdf/en-us/0545500871_FFC_FPC_CONNECTORS.pdf; ComponentLink3Description: Package Specification; ComponentLink3URL: http://www.molex.com/pdm_docs/sd/545500871_sd.pdf
footprint MOLX-54550-0871 (FPC Connector, 8-Leads, Right Angle, Pitch 0.5 mm, Mated Height 1.2 mm, SMT)
pins: 1, 2, 3, 4, 5, 6, 7, 8, MP1, MP2

## 54550-0971
designator J?
0.5 mm Pitch Easy-On(TM) Type FPC Connector, 1.2 mm Mated Height, Right Angle, ZIF, SMT, Top Contact, 9 Circuits, -20 to 85 degC, ELV and RoHS Compliant, Tape and Reel; Manufacturer: Molex; PartNumber: 54550-0971; Circuits (Loaded): 9; Current (Max per Contact): 0.5A; Durability (mating cycles max): 20; Entry Angle: 90degrees Angle; Mated Height: 1.20mm; Material - Metal: Phosphor Bronze; Material - Plating Mating: Gold; Material - Plating Termination: Tin; PCB Locator: No; PCB Retention: Yes; Pitch - Mating Interface: 0.50mm; Voltage (Max): 50V; PackageVersion: Rev. M, 12/2009; PackageReference: 54550-0971; PackageDescription: 9-Lead FPC Connector, Pitch 0.5 mm; Contact Position: Top; Number of Rows: 1; Orientation: Right Angle; Packing: Tape and Reel; Polarized to PCB: Yes; RoHS: TRUE; Stackable: No; Mounting Technology: Surface Mount; ComponentLink1Description: Manufacturer URL; ComponentLink1URL: http://www.molex.com/molex/index.jsp; ComponentLink2Description: Datasheet; ComponentLink2URL: http://www.molex.com/webdocs/datasheets/pdf/en-us/0545500971_FFC_FPC_CONNECTORS.pdf; ComponentLink3Description: Package Specification; ComponentLink3URL: http://www.molex.com/pdm_docs/sd/545500971_sd.pdf
footprint MOLX-54550-0971 (FPC Connector, 9-Leads, Right Angle, Pitch 0.5 mm, Mated Height 1.2 mm, SMT)
pins: 1, 2, 3, 4, 5, 6, 7, 8, 9, MP1, MP2

## 54550-1071
designator J?
0.5 mm Pitch Easy-On(TM) Type FPC Connector, 1.2 mm Mated Height, Right Angle, ZIF, SMT, Top Contact, 10 Circuits, -20 to 85 degC, ELV and RoHS Compliant, Tape and Reel; Manufacturer: Molex; PartNumber: 54550-1071; Circuits (Loaded): 10; Current (Max per Contact): 0.5A; Durability (mating cycles max): 20; Entry Angle: 90degrees Angle; Mated Height: 1.20mm; Material - Metal: Phosphor Bronze; Material - Plating Mating: Gold; Material - Plating Termination: Tin; PCB Locator: No; PCB Retention: Yes; Pitch - Mating Interface: 0.50mm; Voltage (Max): 50V; PackageVersion: Rev. M, 12/2009; PackageReference: 54550-1071; PackageDescription: 10-Lead FPC Connector, Pitch 0.5 mm; Contact Position: Top; Number of Rows: 1; Orientation: Right Angle; Packing: Tape and Reel; Polarized to PCB: Yes; RoHS: TRUE; Stackable: No; Mounting Technology: Surface Mount; ComponentLink1Description: Manufacturer URL; ComponentLink1URL: http://www.molex.com/molex/index.jsp; ComponentLink2Description: Datasheet; ComponentLink2URL: http://www.molex.com/webdocs/datasheets/pdf/en-us/0545501071_FFC_FPC_CONNECTORS.pdf; ComponentLink3Description: Package Specification; ComponentLink3URL: http://www.molex.com/pdm_docs/sd/545501071_sd.pdf
footprint MOLX-54550-1071 (FPC Connector, 10-Leads, Right Angle, Pitch 0.5 mm, Mated Height 1.2 mm, SMT)
pins: 1, 2, 3, 4, 5, 6, 7, 8, 9, 10, MP1, MP2

## 54550-1171
designator J?
0.5 mm Pitch Easy-On(TM) Type FPC Connector, 1.2 mm Mated Height, Right Angle, ZIF, SMT, Top Contact, 11 Circuits, -20 to 85 degC, ELV and RoHS Compliant, Tape and Reel; Manufacturer: Molex; PartNumber: 54550-1171; Circuits (Loaded): 11; Current (Max per Contact): 0.5A; Durability (mating cycles max): 20; Entry Angle: 90degrees Angle; Mated Height: 1.20mm; Material - Metal: Phosphor Bronze; Material - Plating Mating: Gold; Material - Plating Termination: Tin; PCB Locator: No; PCB Retention: Yes; Pitch - Mating Interface: 0.50mm; Voltage (Max): 50V; PackageVersion: Rev. M, 12/2009; PackageReference: 54550-1171; PackageDescription: 11-Lead FPC Connector, Pitch 0.5 mm; Contact Position: Top; Number of Rows: 1; Orientation: Right Angle; Packing: Tape and Reel; Polarized to PCB: Yes; RoHS: TRUE; Stackable: No; Mounting Technology: Surface Mount; ComponentLink1Description: Manufacturer URL; ComponentLink1URL: http://www.molex.com/molex/index.jsp; ComponentLink2Description: Datasheet; ComponentLink2URL: http://www.molex.com/webdocs/datasheets/pdf/en-us/0545501171_FFC_FPC_CONNECTORS.pdf; ComponentLink3Description: Package Specification; ComponentLink3URL: http://www.molex.com/pdm_docs/sd/545501171_sd.pdf
footprint MOLX-54550-1171 (FPC Connector, 11-Leads, Right Angle, Pitch 0.5 mm, Mated Height 1.2 mm, SMT)
pins: 1, 2, 3, 4, 5, 6, 7, 8, 9, 10, 11, MP1, MP2

## 54550-1271
designator J?
0.5 mm Pitch Easy-On(TM) Type FPC Connector, 1.2 mm Mated Height, Right Angle, ZIF, SMT, Top Contact, 12 Circuits, -20 to 85 degC, ELV and RoHS Compliant, Tape and Reel; Manufacturer: Molex; PartNumber: 54550-1271; Circuits (Loaded): 12; Current (Max per Contact): 0.5A; Durability (mating cycles max): 20; Entry Angle: 90degrees Angle; Mated Height: 1.20mm; Material - Metal: Phosphor Bronze; Material - Plating Mating: Gold; Material - Plating Termination: Tin; PCB Locator: No; PCB Retention: Yes; Pitch - Mating Interface: 0.50mm; Voltage (Max): 50V; PackageVersion: Rev. M, 12/2009; PackageReference: 54550-1271; PackageDescription: 12-Lead FPC Connector, Pitch 0.5 mm; Contact Position: Top; Number of Rows: 1; Orientation: Right Angle; Packing: Tape and Reel; Polarized to PCB: Yes; RoHS: TRUE; Stackable: No; Mounting Technology: Surface Mount; ComponentLink1Description: Manufacturer URL; ComponentLink1URL: http://www.molex.com/molex/index.jsp; ComponentLink2Description: Datasheet; ComponentLink2URL: http://www.molex.com/webdocs/datasheets/pdf/en-us/0545501271_FFC_FPC_CONNECTORS.pdf; ComponentLink3Description: Package Specification; ComponentLink3URL: http://www.molex.com/pdm_docs/sd/545501271_sd.pdf
footprint MOLX-54550-1271 (FPC Connector, 12-Leads, Right Angle, Pitch 0.5 mm, Mated Height 1.2 mm, SMT)
pins: 1, 2, 3, 4, 5, 6, 7, 8, 9, 10, 11, 12, MP1, MP2

## 54550-1371
designator J?
0.5 mm Pitch Easy-On(TM) Type FPC Connector, 1.2 mm Mated Height, Right Angle, ZIF, SMT, Top Contact, 13 Circuits, -20 to 85 degC, ELV and RoHS Compliant, Tape and Reel; Manufacturer: Molex; PartNumber: 54550-1371; Circuits (Loaded): 13; Current (Max per Contact): 0.5A; Durability (mating cycles max): 20; Entry Angle: 90degrees Angle; Mated Height: 1.20mm; Material - Metal: Phosphor Bronze; Material - Plating Mating: Gold; Material - Plating Termination: Tin; PCB Locator: No; PCB Retention: Yes; Pitch - Mating Interface: 0.50mm; Voltage (Max): 50V; PackageVersion: Rev. M, 12/2009; PackageReference: 54550-1371; PackageDescription: 13-Lead FPC Connector, Pitch 0.5 mm; Contact Position: Top; Number of Rows: 1; Orientation: Right Angle; Packing: Tape and Reel; Polarized to PCB: Yes; RoHS: TRUE; Stackable: No; Mounting Technology: Surface Mount; ComponentLink1Description: Manufacturer URL; ComponentLink1URL: http://www.molex.com/molex/index.jsp; ComponentLink2Description: Datasheet; ComponentLink2URL: http://www.molex.com/webdocs/datasheets/pdf/en-us/0545501371_FFC_FPC_CONNECTORS.pdf; ComponentLink3Description: Package Specification; ComponentLink3URL: http://www.molex.com/pdm_docs/sd/545501371_sd.pdf
footprint MOLX-54550-1371 (FPC Connector, 13-Leads, Right Angle, Pitch 0.5 mm, Mated Height 1.2 mm, SMT)
pins: 1, 2, 3, 4, 5, 6, 7, 8, 9, 10, 11, 12, 13, MP1, MP2

## 54550-1471
designator J?
0.5 mm Pitch Easy-On(TM) Type FPC Connector, 1.2 mm Mated Height, Right Angle, ZIF, SMT, Top Contact, 14 Circuits, -20 to 85 degC, ELV and RoHS Compliant, Tape and Reel; Manufacturer: Molex; PartNumber: 54550-1471; Circuits (Loaded): 14; Current (Max per Contact): 0.5A; Durability (mating cycles max): 20; Entry Angle: 90degrees Angle; Mated Height: 1.20mm; Material - Metal: Phosphor Bronze; Material - Plating Mating: Gold; Material - Plating Termination: Tin; PCB Locator: No; PCB Retention: Yes; Pitch - Mating Interface: 0.50mm; Voltage (Max): 50V; PackageVersion: Rev. M, 12/2009; PackageReference: 54550-1471; PackageDescription: 14-Lead FPC Connector, Pitch 0.5 mm; Contact Position: Top; Number of Rows: 1; Orientation: Right Angle; Packing: Tape and Reel; Polarized to PCB: Yes; RoHS: TRUE; Stackable: No; Mounting Technology: Surface Mount; ComponentLink1Description: Manufacturer URL; ComponentLink1URL: http://www.molex.com/molex/index.jsp; ComponentLink2Description: Datasheet; ComponentLink2URL: http://www.molex.com/webdocs/datasheets/pdf/en-us/0545501471_FFC_FPC_CONNECTORS.pdf; ComponentLink3Description: Package Specification; ComponentLink3URL: http://www.molex.com/pdm_docs/sd/545501471_sd.pdf
footprint MOLX-54550-1471 (FPC Connector, 14-Leads, Right Angle, Pitch 0.5 mm, Mated Height 1.2 mm, SMT)
pins: 1, 2, 3, 4, 5, 6, 7, 8, 9, 10, 11, 12, 13, 14, MP1, MP2

## 54550-1671
designator J?
0.5 mm Pitch Easy-On(TM) Type FPC Connector, 1.2 mm Mated Height, Right Angle, ZIF, SMT, Top Contact, 16 Circuits, -20 to 85 degC, ELV and RoHS Compliant, Tape and Reel; Manufacturer: Molex; PartNumber: 54550-1671; Circuits (Loaded): 16; Current (Max per Contact): 0.5A; Durability (mating cycles max): 20; Entry Angle: 90degrees Angle; Mated Height: 1.20mm; Material - Metal: Phosphor Bronze; Material - Plating Mating: Gold; Material - Plating Termination: Tin; PCB Locator: No; PCB Retention: Yes; Pitch - Mating Interface: 0.50mm; Voltage (Max): 50V; PackageVersion: Rev. M, 12/2009; PackageReference: 54550-1671; PackageDescription: 16-Lead FPC Connector, Pitch 0.5 mm; Contact Position: Top; Number of Rows: 1; Orientation: Right Angle; Packing: Tape and Reel; Polarized to PCB: Yes; RoHS: TRUE; Stackable: No; Mounting Technology: Surface Mount; ComponentLink1Description: Manufacturer URL; ComponentLink1URL: http://www.molex.com/molex/index.jsp; ComponentLink2Description: Datasheet; ComponentLink2URL: http://www.molex.com/webdocs/datasheets/pdf/en-us/0545501671_FFC_FPC_CONNECTORS.pdf; ComponentLink3Description: Package Specification; ComponentLink3URL: http://www.molex.com/pdm_docs/sd/545501671_sd.pdf
footprint MOLX-54550-1671 (FPC Connector, 16-Leads, Right Angle, Pitch 0.5 mm, Mated Height 1.2 mm, SMT)
pins: 1, 2, 3, 4, 5, 6, 7, 8, 9, 10, 11, 12, 13, 14, 15, 16, MP1, MP2

## 54550-1771
designator J?
0.5 mm Pitch Easy-On(TM) Type FPC Connector, 1.2 mm Mated Height, Right Angle, ZIF, SMT, Top Contact, 17 Circuits, -20 to 85 degC, ELV and RoHS Compliant, Tape and Reel; Manufacturer: Molex; PartNumber: 54550-1771; Circuits (Loaded): 17; Current (Max per Contact): 0.5A; Durability (mating cycles max): 20; Entry Angle: 90degrees Angle; Mated Height: 1.20mm; Material - Metal: Phosphor Bronze; Material - Plating Mating: Gold; Material - Plating Termination: Tin; PCB Locator: No; PCB Retention: Yes; Pitch - Mating Interface: 0.50mm; Voltage (Max): 50V; PackageVersion: Rev. M, 12/2009; PackageReference: 54550-1771; PackageDescription: 17-Lead FPC Connector, Pitch 0.5 mm; Contact Position: Top; Number of Rows: 1; Orientation: Right Angle; Packing: Tape and Reel; Polarized to PCB: Yes; RoHS: TRUE; Stackable: No; Mounting Technology: Surface Mount; ComponentLink1Description: Manufacturer URL; ComponentLink1URL: http://www.molex.com/molex/index.jsp; ComponentLink2Description: Datasheet; ComponentLink2URL: http://www.molex.com/webdocs/datasheets/pdf/en-us/0545501771_FFC_FPC_CONNECTORS.pdf; ComponentLink3Description: Package Specification; ComponentLink3URL: http://www.molex.com/pdm_docs/sd/545501771_sd.pdf
footprint MOLX-54550-1771 (FPC Connector, 17-Leads, Right Angle, Pitch 0.5 mm, Mated Height 1.2 mm, SMT)
pins: 1, 2, 3, 4, 5, 6, 7, 8, 9, 10, 11, 12, 13, 14, 15, 16, 17, MP1, MP2

## 54550-1871
designator J?
0.5 mm Pitch Easy-On(TM) Type FPC Connector, 1.2 mm Mated Height, Right Angle, ZIF, SMT, Top Contact, 18 Circuits, -20 to 85 degC, ELV and RoHS Compliant, Tape and Reel; Manufacturer: Molex; PartNumber: 54550-1871; Circuits (Loaded): 18; Current (Max per Contact): 0.5A; Durability (mating cycles max): 20; Entry Angle: 90degrees Angle; Mated Height: 1.20mm; Material - Metal: Phosphor Bronze; Material - Plating Mating: Gold; Material - Plating Termination: Tin; PCB Locator: No; PCB Retention: Yes; Pitch - Mating Interface: 0.50mm; Voltage (Max): 50V; PackageVersion: Rev. M, 12/2009; PackageReference: 54550-1871; PackageDescription: 18-Lead FPC Connector, Pitch 0.5 mm; Contact Position: Top; Number of Rows: 1; Orientation: Right Angle; Packing: Tape and Reel; Polarized to PCB: Yes; RoHS: TRUE; Stackable: No; Mounting Technology: Surface Mount; ComponentLink1Description: Manufacturer URL; ComponentLink1URL: http://www.molex.com/molex/index.jsp; ComponentLink2Description: Datasheet; ComponentLink2URL: http://www.molex.com/webdocs/datasheets/pdf/en-us/0545501871_FFC_FPC_CONNECTORS.pdf; ComponentLink3Description: Package Specification; ComponentLink3URL: http://www.molex.com/pdm_docs/sd/545501871_sd.pdf
footprint MOLX-54550-1871 (FPC Connector, 18-Leads, Right Angle, Pitch 0.5 mm, Mated Height 1.2 mm, SMT)
pins: 1, 2, 3, 4, 5, 6, 7, 8, 9, 10, 11, 12, 13, 14, 15, 16, 17, 18, MP1, MP2

## 54550-1971
designator J?
0.5 mm Pitch Easy-On(TM) Type FPC Connector, 1.2 mm Mated Height, Right Angle, ZIF, SMT, Top Contact, 19 Circuits, -20 to 85 degC, ELV and RoHS Compliant, Tape and Reel; Manufacturer: Molex; PartNumber: 54550-1971; Circuits (Loaded): 19; Current (Max per Contact): 0.5A; Durability (mating cycles max): 20; Entry Angle: 90degrees Angle; Mated Height: 1.20mm; Material - Metal: Phosphor Bronze; Material - Plating Mating: Gold; Material - Plating Termination: Tin; PCB Locator: No; PCB Retention: Yes; Pitch - Mating Interface: 0.50mm; Voltage (Max): 50V; PackageVersion: Rev. M, 12/2009; PackageReference: 54550-1971; PackageDescription: 19-Lead FPC Connector, Pitch 0.5 mm; Contact Position: Top; Number of Rows: 1; Orientation: Right Angle; Packing: Tape and Reel; Polarized to PCB: Yes; RoHS: TRUE; Stackable: No; Mounting Technology: Surface Mount; ComponentLink1Description: Manufacturer URL; ComponentLink1URL: http://www.molex.com/molex/index.jsp; ComponentLink2Description: Datasheet; ComponentLink2URL: http://www.molex.com/webdocs/datasheets/pdf/en-us/0545501971_FFC_FPC_CONNECTORS.pdf; ComponentLink3Description: Package Specification; ComponentLink3URL: http://www.molex.com/pdm_docs/sd/545501971_sd.pdf
footprint MOLX-54550-1971 (FPC Connector, 19-Leads, Right Angle, Pitch 0.5 mm, Mated Height 1.2 mm, SMT)
pins: 1, 2, 3, 4, 5, 6, 7, 8, 9, 10, 11, 12, 13, 14, 15, 16, 17, 18, 19, MP1, MP2

## 54550-2071
designator J?
0.5 mm Pitch Easy-On(TM) Type FPC Connector, 1.2 mm Mated Height, Right Angle, ZIF, SMT, Top Contact, 20 Circuits, -20 to 85 degC, ELV and RoHS Compliant, Tape and Reel; Manufacturer: Molex; PartNumber: 54550-2071; Circuits (Loaded): 20; Current (Max per Contact): 0.5A; Entry Angle: 90degrees Angle; Mated Height: 1.20mm; Material - Metal: Phosphor Bronze; Material - Plating Mating: Gold; Material - Plating Termination: Tin; PCB Locator: No; PCB Retention: Yes; Pitch - Mating Interface: 0.50mm; Voltage (Max): 50V; PackageVersion: Rev. M, 12/2009; PackageReference: 54550-2071; PackageDescription: 20-Lead FPC Connector, Pitch 0.5 mm; Contact Position: Top; Durability (mating cycles max): 20; Number of Rows: 1; Orientation: Right Angle; Packing: Tape and Reel; Polarized to PCB: Yes; RoHS: TRUE; Stackable: No; Mounting Technology: Surface Mount; ComponentLink1Description: Manufacturer URL; ComponentLink1URL: http://www.molex.com/molex/index.jsp; ComponentLink2Description: Datasheet; ComponentLink2URL: http://www.molex.com/webdocs/datasheets/pdf/en-us/0545502071_FFC_FPC_CONNECTORS.pdf; ComponentLink3Description: Package Specification; ComponentLink3URL: http://www.molex.com/pdm_docs/sd/545502071_sd.pdf
footprint MOLX-54550-2071 (FPC Connector, 20-Leads, Right Angle, Pitch 0.5 mm, Mated Height 1.2 mm, SMT)
pins: 1, 2, 3, 4, 5, 6, 7, 8, 9, 10, 11, 12, 13, 14, 15, 16, 17, 18, 19, 20, MP1, MP2

## 54550-2171
designator J?
0.5 mm Pitch Easy-On(TM) Type FPC Connector, 1.2 mm Mated Height, Right Angle, ZIF, SMT, Top Contact, 21 Circuits, -20 to 85 degC, ELV and RoHS Compliant, Tape and Reel; Manufacturer: Molex; PartNumber: 54550-2171; Circuits (Loaded): 21; Current (Max per Contact): 0.5A; Durability (mating cycles max): 20; Entry Angle: 90degrees Angle; Mated Height: 1.20mm; Material - Metal: Phosphor Bronze; Material - Plating Mating: Gold; Material - Plating Termination: Tin; PCB Locator: No; PCB Retention: Yes; Pitch - Mating Interface: 0.50mm; Voltage (Max): 50V; PackageVersion: Rev. M, 12/2009; PackageReference: 54550-2171; PackageDescription: 21-Lead FPC Connector, Pitch 0.5 mm; Contact Position: Top; Number of Rows: 1; Orientation: Right Angle; Packing: Tape and Reel; Polarized to PCB: Yes; RoHS: TRUE; Stackable: No; Mounting Technology: Surface Mount; ComponentLink1Description: Manufacturer URL; ComponentLink1URL: http://www.molex.com/molex/index.jsp; ComponentLink2Description: Datasheet; ComponentLink2URL: http://www.molex.com/webdocs/datasheets/pdf/en-us/0545502171_FFC_FPC_CONNECTORS.pdf; ComponentLink3Description: Package Specification; ComponentLink3URL: http://www.molex.com/pdm_docs/sd/545502171_sd.pdf
footprint MOLX-54550-2171 (FPC Connector, 21-Leads, Right Angle, Pitch 0.5 mm, Mated Height 1.2 mm, SMT)
pins: 1, 2, 3, 4, 5, 6, 7, 8, 9, 10, 11, 12, 13, 14, 15, 16, 17, 18, 19, 20, 21, MP1, MP2

## 54550-2271
designator J?
0.5 mm Pitch Easy-On(TM) Type FPC Connector, 1.2 mm Mated Height, Right Angle, ZIF, SMT, Top Contact, 22 Circuits, -20 to 85 degC, ELV and RoHS Compliant, Tape and Reel; Manufacturer: Molex; PartNumber: 54550-2271; Circuits (Loaded): 22; Current (Max per Contact): 0.5A; Durability (mating cycles max): 20; Entry Angle: 90degrees Angle; Mated Height: 1.20mm; Material - Metal: Phosphor Bronze; Material - Plating Mating: Gold; Material - Plating Termination: Tin; PCB Locator: No; PCB Retention: Yes; Pitch - Mating Interface: 0.50mm; Voltage (Max): 50V; PackageVersion: Rev. M, 12/2009; PackageReference: 54550-2271; PackageDescription: 22-Lead FPC Connector, Pitch 0.5 mm; Contact Position: Top; Number of Rows: 1; Orientation: Right Angle; Packing: Tape and Reel; Polarized to PCB: Yes; RoHS: TRUE; Stackable: No; Mounting Technology: Surface Mount; ComponentLink1Description: Manufacturer URL; ComponentLink1URL: http://www.molex.com/molex/index.jsp; ComponentLink2Description: Datasheet; ComponentLink2URL: http://www.molex.com/webdocs/datasheets/pdf/en-us/0545502271_FFC_FPC_CONNECTORS.pdf; ComponentLink3Description: Package Specification; ComponentLink3URL: http://www.molex.com/pdm_docs/sd/545502271_sd.pdf
footprint MOLX-54550-2271 (FPC Connector, 22-Leads, Right Angle, Pitch 0.5 mm, Mated Height 1.2 mm, SMT)
pins: 1, 2, 3, 4, 5, 6, 7, 8, 9, 10, 11, 12, 13, 14, 15, 16, 17, 18, 19, 20, 21, 22, MP1, MP2